# Altium integrated library TL494IN.IntLib: 1 symbol
Pins are listed as number, name and electrical type; pins without a type are passive.

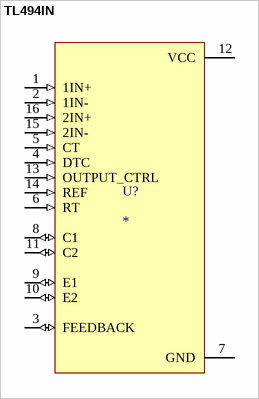
[diagram p0: symbol TL494IN]

## TL494IN
designator U?
40V, 0.2A 300KHz PWM controller; MF: Texas Instruments; MP: TL494IN; SnapEDA_Link: https://www.snapeda.com/parts/TL494IN/Texas+Instruments/view-part/?ref=snap; Package: PDIP-16 Texas Instruments; Value: *; Check_prices: https://www.snapeda.com/parts/TL494IN/Texas+Instruments/view-part/?ref=eda
footprint DIP794W45P254L1969H508Q16
pins: 1 1IN+ (in), 2 1IN- (in), 3 FEEDBACK (io), 4 DTC (in), 5 CT (in), 6 RT (in), 7 GND (power), 8 C1 (io), 9 E1 (io), 10 E2 (io), 11 C2 (io), 12 VCC (power), 13 OUTPUT_CTRL (in), 14 REF (in), 15 2IN- (in), 16 2IN+ (in)